# Altium schematic symbol library SCH - POWER - LINEAR VREG - TI TPS73512DRB.SchLib: 1 symbol
Pins are listed as number, name and electrical type; pins without a type are passive.

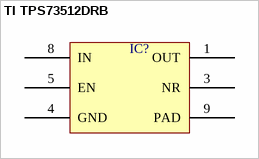
[diagram p0: symbol TI TPS73512DRB]

## TI TPS73512DRB
designator IC?  (value not drawn)
pins: 1 OUT, 3 NR, 4 GND, 5 EN, 8 IN, 9 PAD